# EAGLE library part PIC18F4431 (library MyComponents)
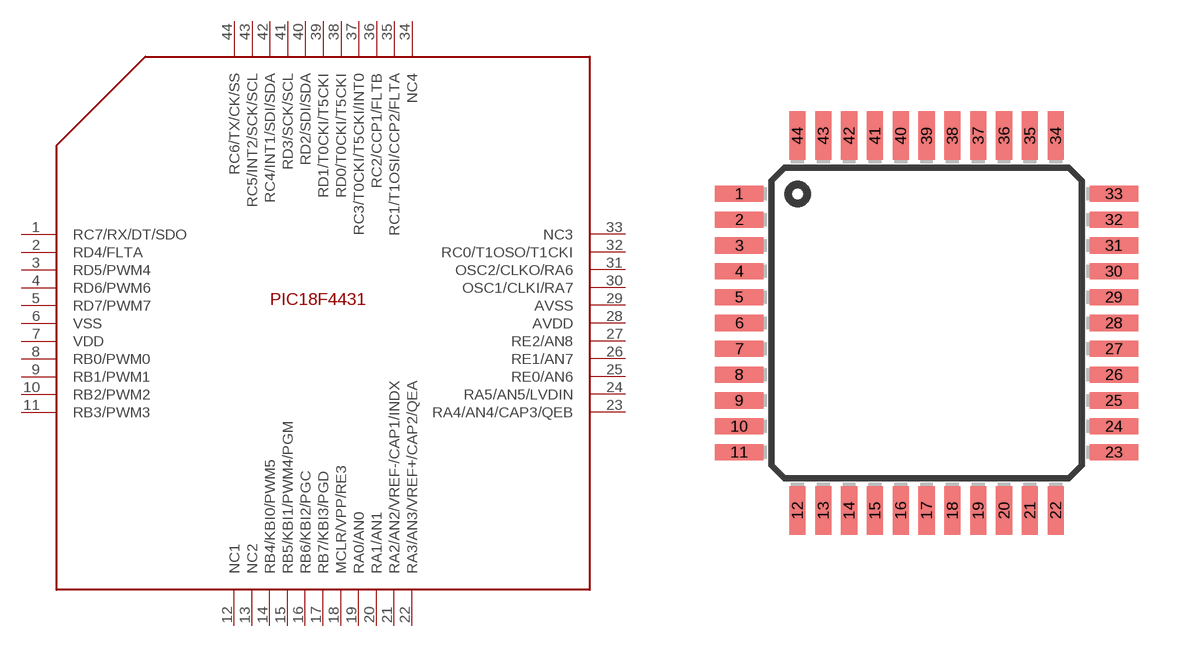
[diagram p3: symbol with the pads of TQFP44; footprint TQFP44]

Designator prefix -

## PIC18F4431  [TQFP44]
1  RC7/RX/DT/SDO
2  RD4/FLTA
3  RD5/PWM4
4  RD6/PWM6
5  RD7/PWM7
6  VSS
7  VDD
8  RB0/PWM0
9  RB1/PWM1
10  RB2/PWM2
11  RB3/PWM3
12  NC1
13  NC2
14  RB4/KBI0/PWM5
15  RB5/KBI1/PWM4/PGM
16  RB6/KBI2/PGC
17  RB7/KBI3/PGD
18  MCLR/VPP/RE3
19  RA0/AN0
20  RA1/AN1
21  RA2/AN2/VREF-/CAP1/INDX
22  RA3/AN3/VREF+/CAP2/QEA
23  RA4/AN4/CAP3/QEB
24  RA5/AN5/LVDIN
25  RE0/AN6
26  RE1/AN7
27  RE2/AN8
28  AVDD
29  AVSS
30  OSC1/CLKI/RA7
31  OSC2/CLKO/RA6
32  RC0/T1OSO/T1CKI
33  NC3
34  NC4
35  RC1/T1OSI/CCP2/FLTA
36  RC2/CCP1/FLTB
37  RC3/T0CKI/T5CKI/INT0
38  RD0/T0CKI/T5CKI
39  RD1/T0CKI/T5CKI
40  RD2/SDI/SDA
41  RD3/SCK/SCL
42  RC4/INT1/SDI/SDA
43  RC5/INT2/SCK/SCL
44  RC6/TX/CK/SS

## Footprint TQFP44 (pad centres in mm)
Thin Quad Flat Pack package type TQ
smd 1.5 x 0.5: 1 -5.8,4; 2 -5.8,3.2; 3 -5.8,2.4; 4 -5.8,1.6; 5 -5.8,0.8; 6 -5.8,0; 7 -5.8,-0.8; 8 -5.8,-1.6; 9 -5.8,-2.4; 10 -5.8,-3.2; 11 -5.8,-4; 23 5.8,-4; 24 5.8,-3.2; 25 5.8,-2.4; 26 5.8,-1.6; 27 5.8,-0.8; 28 5.8,0; 29 5.8,0.8; 30 5.8,1.6; 31 5.8,2.4; 32 5.8,3.2; 33 5.8,4
smd 0.5 x 1.5: 12 -4,-5.8; 13 -3.2,-5.8; 14 -2.4,-5.8; 15 -1.6,-5.8; 16 -0.8,-5.8; 17 0,-5.8; 18 0.8,-5.8; 19 1.6,-5.8; 20 2.4,-5.8; 21 3.2,-5.8; 22 4,-5.8; 34 4,5.8; 35 3.2,5.8; 36 2.4,5.8; 37 1.6,5.8; 38 0.8,5.8; 39 0,5.8; 40 -0.8,5.8; 41 -1.6,5.8; 42 -2.4,5.8; 43 -3.2,5.8; 44 -4,5.8